# Altium schematic symbol library VOD205T.SchLib: 1 symbol
Pins are listed as number, name and electrical type; pins without a type are passive.

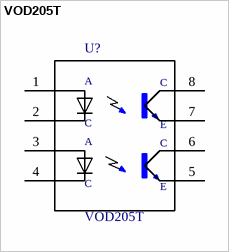
[diagram p0: symbol VOD205T]

## VOD205T
designator U?
VOD205 Series Dual Channel 70V 4000Vrms SMT Phototransistor Optocoupler - SOIC-8; MF: Vishay Semiconductor; MP: VOD205T; Digi-Key_Purchase_URL: https://www.digikey.com/product-detail/en/vishay-semiconductor-opto-division/VOD205T/VOD205TCT-ND/7612328?utm_source=snapeda&utm_medium=aggregator&utm_campaign=symbol; SnapEDA_Link: https://www.snapeda.com/parts/VOD205T/Vishay%20Semiconductor%20Opto%20Division/view-part/?ref=snap; Package: SOIC-8 Vishay; Digi-Key_Part_Number: VOD205TCT-ND; Value: *
footprint *SOIC127P610X331-8N
pins: 1 A1, 2 C1, 3 A2, 4 C2, 5 E1, 6 CO1, 7 E2, 8 CO2
text: A; C; E